# Altium schematic symbol library 隔离DCDC电源模块.SchLib: 3 symbols
Pins are listed as number, name and electrical type; pins without a type are passive.

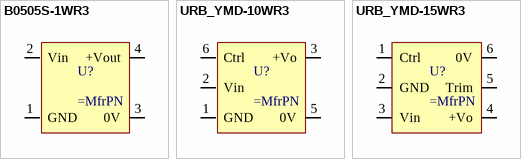
[diagram p0: symbols B0505S-1WR3 to URB_YMD-15WR3]

## B0505S-1WR3
designator U?
pins: 1 GND, 2 Vin, 3 0V, 4 +Vout

## URB_YMD-10WR3
designator U?
pins: 1 GND, 2 Vin, 3 +Vo, 5 0V, 6 Ctrl

## URB_YMD-15WR3
designator U?
footprint URB_YMD-15WR3
pins: 1 Ctrl, 2 GND, 3 Vin, 4 +Vo, 5 Trim, 6 0V